# EAGLE library part 236-503 (library con-wago_236)
Serie 236, Klemmenleiste für Leiterplatten 2 Lötstifte/Pol / Series 236, PCB terminal strip 2 solder pins/pole Polzahl / Pole No.: 3 Rastermaß / Pitch: 7.62 mm Bemessungsspannung / Rated Voltage: 630 V Nennstrom / Nominal Current: 24 A Leiterquerschnitt / Conductor Size: 0.08 - 2.5 mm² Anschlusstechnik / Connection Technology: CAGE CLAMP® Lötstiftlänge: / Solder Pin Length: 4 mm Leitereinführung (zur Platine) / Conductor entry angle (to PCB): 45 ° Farbe / Color: grau / gray Stand: 01.01.2012. Die jeweils aktuellen Daten zu diesem Artikel finden Sie in unserem Produktkatalog, den Sie unter www.wago.com einsehen können. As of: 01/01/2012. Please find the newest data for this article in our product catalogue, which can be viewed under www.wago.com.
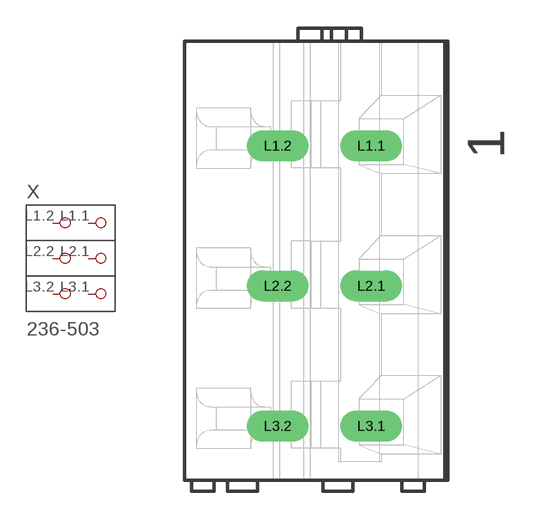
[diagram p26: symbol with the pads of P-236-503; footprint P-236-503]

Designator prefix X

## 236-503  [P-236-503]
L1.1  P1.1
L1.2  P1.2
L2.1  P2.1
L2.2  P2.2
L3.1  P3.1
L3.2  P3.2

## Footprint P-236-503 (pad centres in mm)
drill 1.1 long: L1.1 2.957,6.1; L1.2 -2.043,6.1; L2.1 2.957,-1.4; L2.2 -2.043,-1.4; L3.1 2.957,-8.9; L3.2 -2.043,-8.9